# EAGLE library part LM74700QDBVTQ1 (library hot-wand)
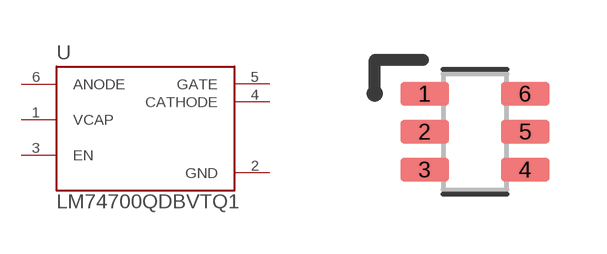
[diagram p3: symbol with the pads of SOT95P280X145-6N; footprint SOT95P280X145-6N]

Designator prefix U

## LM74700QDBVTQ1 (CHECK_PRICES: https://www.snapeda.com/parts/LM74700QDBVTQ1/Texas+Instruments/view-part/?ref=eda; DESCRIPTION: 3.2-V to 65-V, 80-uA IQ automotive ideal diode controller; DIGIKEY_PART_NUMBER: 296-53420-1-ND; MF: Texas Instruments; MP: LM74700QDBVTQ1; PACKAGE: SOT-23-6 Texas Instruments; SNAPEDA_LINK: https://www.snapeda.com/parts/LM74700QDBVTQ1/Texas+Instruments/view-part/?ref=snap)  [SOT95P280X145-6N]
1  VCAP  out
2  GND  pwr
3  EN  in
4  CATHODE  in
5  GATE  out
6  ANODE  in

## Footprint SOT95P280X145-6N (pad centres in mm)
smd 1.21 x 0.58: 1 -1.255,0.95; 2 -1.255,0; 3 -1.255,-0.95; 4 1.255,-0.95; 5 1.255,0; 6 1.255,0.95